# Altium schematic symbol library ATtiny85.Schlib: 1 symbol
Pins are listed as number, name and electrical type; pins without a type are passive.

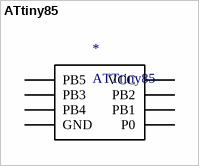
[diagram p0: symbol ATtiny85]

## ATtiny85
designator *, comment ATTtiny85
pins: 1 PB5, 2 PB3, 3 PB4, 4 GND, 5 P0, 6 PB1, 7 PB2, 8 VCC